# Altium footprint library FootprintLib.PcbLib: 194 footprints (part 1 of 13)
Each footprint in its own frame and in the unit in brackets; x right, y up, seen from the top. Pads: shape width x height; smd on the part's side, far side on the other; paste and mask are expansions set on the pad; w line width, h text height; cw(c..) or ccw(c..) is an arc to the next point about the centre after c.
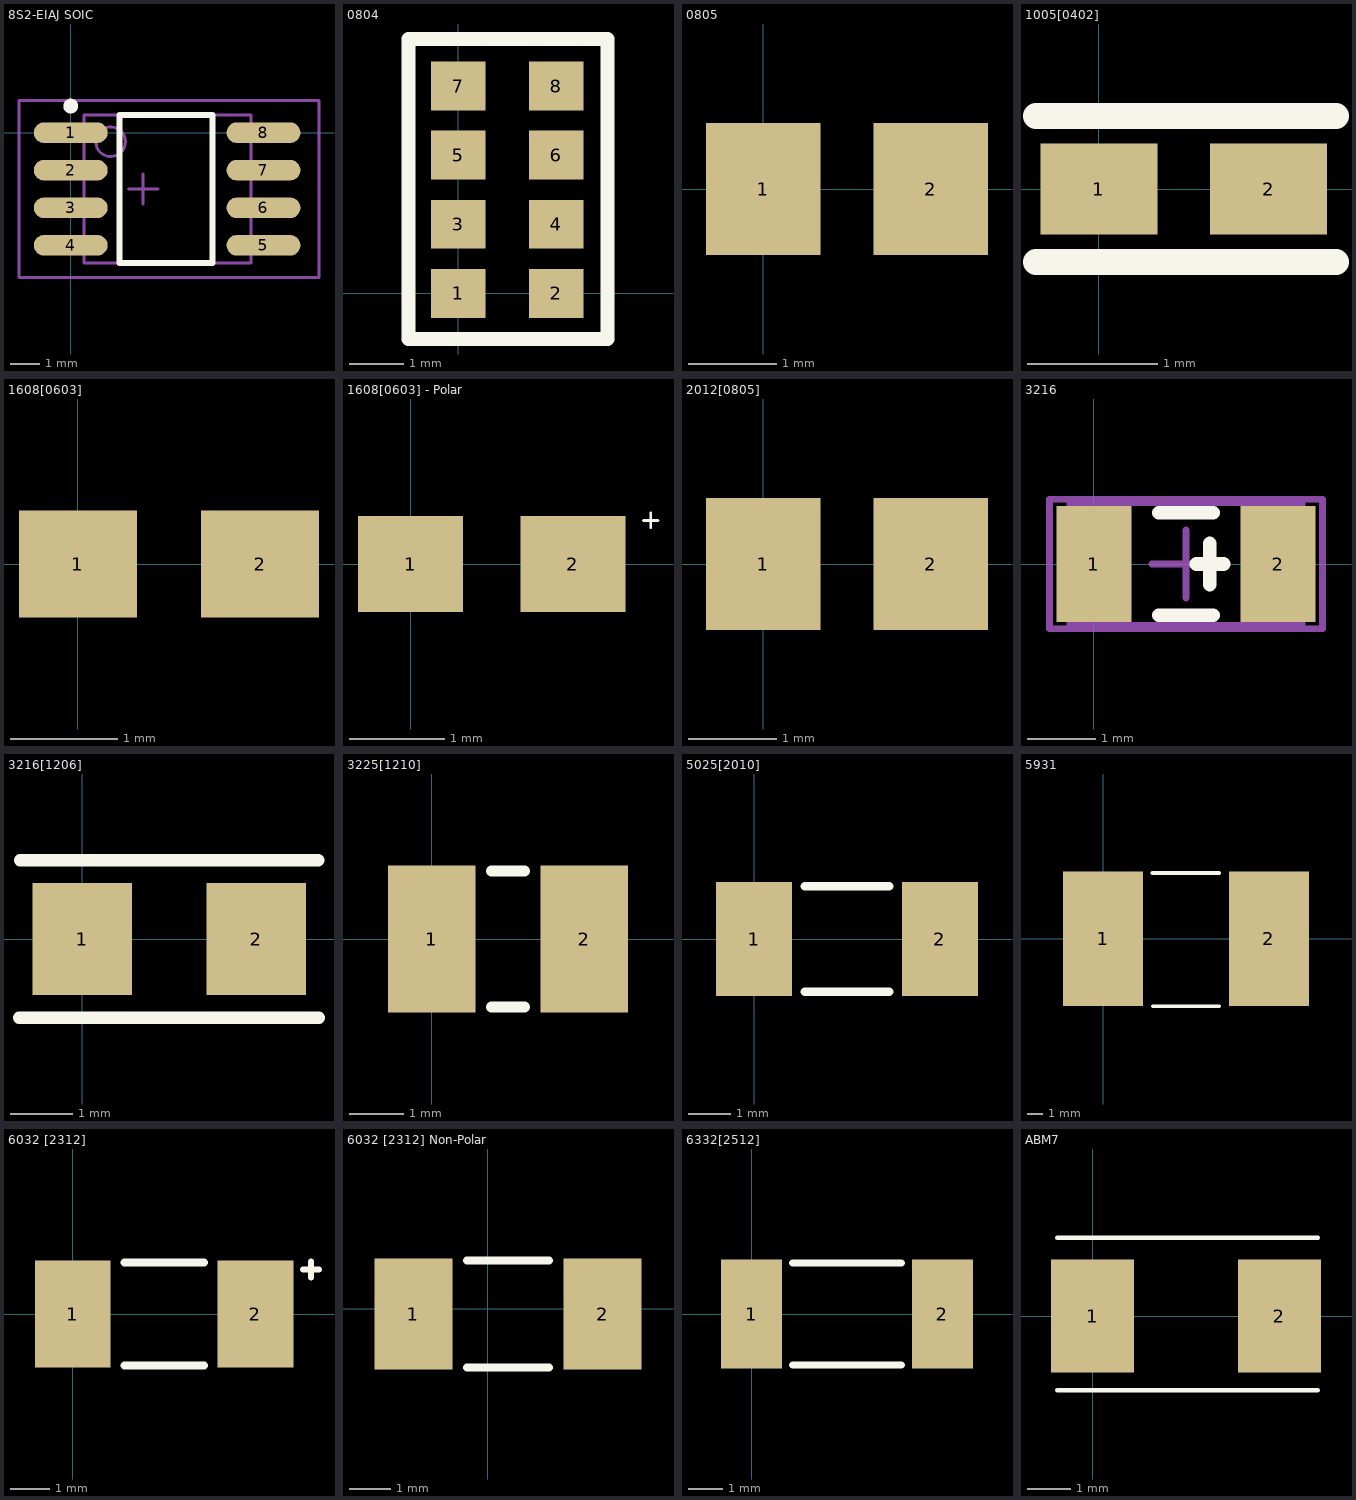
[diagram p0: the footprints below, top view; thin cyan lines are the x and y axes]

## 8S2-EIAJ SOIC [mm]
height 2.16
pads (8):
  oval 2.5x0.7 smd: 1(0,0) 2(0,-1.27) 3(0,-2.54) 4(0,-3.81) 5(6.52,-3.81) 6(6.52,-2.54) 7(6.52,-1.27) 8(6.52,0)
Top Overlay:
  circle w0.25: c0,0.9 r0.125
  lines w0.2: 1.65,-4.405 1.65,0.595 4.8,0.595 4.8,-4.405 1.65,-4.405
Mechanical 13:
  circle w0.1: c1.35,-0.305 r0.5
  lines w0.1: 0.45,-4.405 0.45,0.595 6.1,0.595 6.1,-4.405 0.45,-4.405
Mechanical 15:
  lines w0.1: 1.95,-1.905 2.95,-1.905 ; 2.45,-2.405 2.45,-1.405 ; -1.75,-4.905 -1.75,1.095 8.4,1.095 8.4,-4.905 -1.75,-4.905
3D body: height 1.75, standoff 0, extent 0.45,-4.405 6.1,0.595

## 0804 [mm]
pads (8):
  rect 1x0.9 smd: 1(0,0) 2(1.8,0) 3(0,1.27) 4(1.8,1.27) 5(0,2.54) 6(1.8,2.54) 7(0,3.81) 8(1.8,3.81)
Top Overlay:
  lines w0.254: -0.914,-0.838 -0.914,4.674 2.743,4.674 2.743,-0.838 -0.914,-0.838

## 0805 [mm]
height 1
pads (2):
  rect 1.3x1.5 smd: 1(0,0) 2(1.9,0)

## 1005[0402] [mm] "SMT LED; 2 Flat Leads"
height 1.2
pads (2):
  rect 0.9x0.7 smd: 1(0,0) 2(1.3,0)
Top Overlay:
  lines w0.2: -0.483,-0.559 1.817,-0.559 ; -0.483,0.559 1.817,0.559

## 1608[0603] [mm] "Chip Capacitor; Body 1.6 x 0.8 mm (LxW typ)"
height 1.35
pads (2):
  rect 1.1x1 smd: 1(0,0) 2(1.7,0)

## 1608[0603] - Polar [mm] "Chip Capacitor; Body 1.6 x 0.8 mm (LxW typ)"
height 1.35
pads (2):
  rect 1.1x1 smd: 1(0,0) 2(1.7,0)
Top Overlay:
  lines w0.03: 2.438,0.457 2.591,0.457 ; 2.515,0.381 2.515,0.533

## 2012[0805] [mm]
pads (2):
  rect 1.3x1.5 smd: 1(0,0) 2(1.9,0)

## 3216 [mm]
height 1.6
pads (2):
  rect 1.1x1.7 smd: 1(0,0) 2(2.7,0)
Top Overlay:
  lines w0.2: 0.95,-0.75 1.75,-0.75 ; 0.95,0.75 1.75,0.75 ; 1.5,0 1.9,0 ; 1.7,-0.3 1.7,0.3
Mechanical 13:
  lines w0.1: -0.35,-0.9 3.05,-0.9 3.05,0.9 -0.35,0.9 -0.35,-0.9
Mechanical 15:
  lines w0.1: 0.85,0 1.85,0 ; 1.35,-0.5 1.35,0.5 ; -0.65,-0.95 3.35,-0.95 3.35,0.95 -0.65,0.95 -0.65,-0.95
3D body: height 1.3, standoff 0, extent -0.35,-0.9 3.05,0.9

## 3216[1206] [mm]
pads (2):
  rect 1.6x1.8 smd: 1(0,0) 2(2.8,0)
Top Overlay:
  lines w0.2: -1.016,-1.27 3.81,-1.27 ; -1,1.27 3.8,1.27

## 3225[1210] [mm]
pads (2):
  rect 1.6x2.7 smd: 1(0,0) 2(2.8,0)
Top Overlay:
  lines w0.2: 1.1,-1.25 1.7,-1.25 ; 1.1,1.25 1.7,1.25

## 5025[2010] [mm]
pads (2):
  rect 1.8x2.7 smd: 1(0,0) 2(4.4,0)
Top Overlay:
  lines w0.2: 1.2,-1.25 3.2,-1.25 ; 1.2,1.25 3.2,1.25

## 5931 [mm]
pads (2):
  rect 5.2x8.75 smd: 1(0,0) 2(10.8,0)
Top Overlay:
  lines w0.254: 3.226,4.293 7.544,4.293 ; 3.251,-4.394 7.569,-4.394

## 6032 [2312] [mm]
height 2.6
pads (2):
  rect 1.9x2.7 smd: 1(0,0) 2(4.6,0)
Top Overlay:
  lines w0.15: 5.791,1.118 6.198,1.118 ; 5.994,0.914 5.994,1.321
  lines w0.2: 1.3,-1.3 3.3,-1.3 ; 1.3,1.3 3.3,1.3

## 6032 [2312] Non-Polar [mm]
pads (2):
  rect 1.9x2.7 smd: 1(-1.803,-0.127) 2(2.797,-0.127)
Top Overlay:
  lines w0.2: -0.503,-1.427 1.497,-1.427 ; -0.503,1.173 1.497,1.173

## 6332[2512] [mm]
pads (2):
  rect 1.8x3.2 smd: 1(0,0) 2(5.6,0)
Top Overlay:
  lines w0.2: 1.2,-1.5 4.4,-1.5 ; 1.2,1.5 4.4,1.5

## ABM7 [mm]
height 1.4
pads (2):
  rect 1.9x2.6 smd: 1(0,0) 2(4.3,0)
Top Overlay:
  lines w0.1: -0.813,-1.702 5.182,-1.702 ; -0.813,1.803 5.187,1.803